# Altium integrated library Cirrus Converter CODEC.IntLib: 4 symbols
Pins are listed as number, name and electrical type; pins without a type are passive.

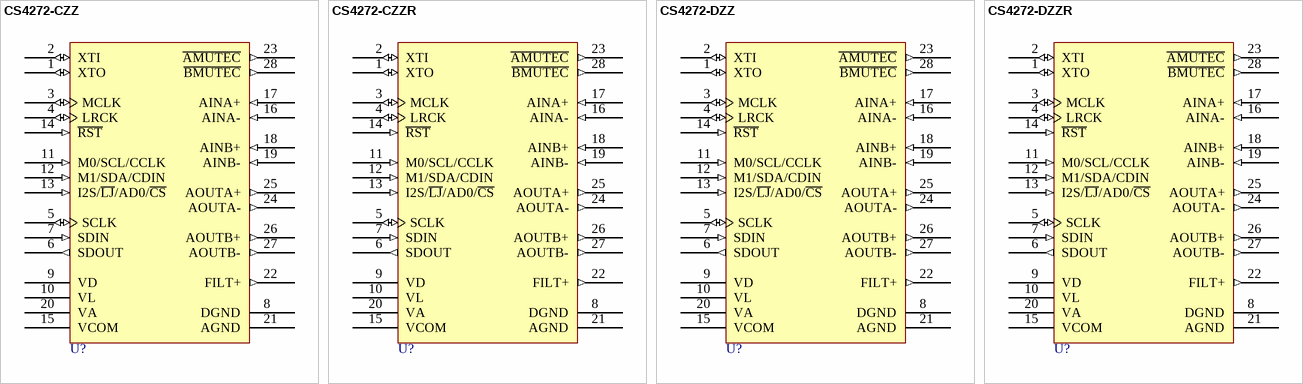
[diagram p0: symbols CS4272-CZZ to CS4272-DZZR]

## CS4272-CZZ
designator U?
24-Bit, 192 kHz Stereo Audio CODEC, 114 dB Dynamic Range, -100 dB THD+N, 28-pin TSSOP, Tube; Published: 30-May-2008; DatasheetVersion: revF1, Aug-2005; PackageVersion: Aug-2005; PackageReference: TSSOP28; Publisher: Altium Limited; PackageDescription: 28-Pin Thin Small Outline Package 0.65 mm Pitch; Code_JEDEC: MO-153; ComponentLink1Description: Manufacturer Link; ComponentLink1URL: http://www.cirrus.com/en/; ComponentLink2Description: Datasheet; ComponentLink2URL: http://www.cirrus.com/en/pubs/proDatasheet/CS4272_F1.pdf
footprint TSSOP28_N (TSOP, 28-Leads, Body 9.7x4.4mm, Pitch 0.65mm, IPC Medium Density)
footprint TSSOP28_L (TSOP, 28-Leads, Body 9.7x4.4mm, Pitch 0.65mm, IPC High Density)
footprint TSSOP28_M (TSOP, 28-Leads, Body 9.7x4.4mm, Pitch 0.65mm, IPC Low Density)
pins: 1 XTO (io), 2 XTI (io), 3 MCLK (io), 4 LRCK (io), 5 SCLK (io), 6 SDOUT (out), 7 SDIN (in), 8 DGND (power), 9 VD (power), 10 VL (power), 11 M0/SCL/CCLK (in), 12 M1/SDA/CDIN (in), 13 I2S/~{LJ}/AD0/~{CS} (in), 14 ~{RST} (in), 15 VCOM (power), 16 AINA- (in), 17 AINA+ (in), 18 AINB+ (in), 19 AINB- (in), 20 VA (power), 21 AGND (power), 22 FILT+ (out), 23 ~{AMUTEC} (out), 24 AOUTA- (out), 25 AOUTA+ (out), 26 AOUTB+ (out), 27 AOUTB- (out), 28 ~{BMUTEC} (out)

## CS4272-CZZR
designator U?
24-Bit, 192 kHz Stereo Audio CODEC, 114 dB Dynamic Range, -100 dB THD+N, 28-pin TSSOP, T&R; Published: 30-May-2008; DatasheetVersion: revF1, Aug-2005; PackageVersion: Aug-2005; PackageReference: TSSOP28; Publisher: Altium Limited; PackageDescription: 28-Pin Thin Small Outline Package 0.65 mm Pitch; Code_JEDEC: MO-153; ComponentLink1Description: Manufacturer Link; ComponentLink1URL: http://www.cirrus.com/en/; ComponentLink2Description: Datasheet; ComponentLink2URL: http://www.cirrus.com/en/pubs/proDatasheet/CS4272_F1.pdf
footprint TSSOP28_N (TSOP, 28-Leads, Body 9.7x4.4mm, Pitch 0.65mm, IPC Medium Density)
footprint TSSOP28_L (TSOP, 28-Leads, Body 9.7x4.4mm, Pitch 0.65mm, IPC High Density)
footprint TSSOP28_M (TSOP, 28-Leads, Body 9.7x4.4mm, Pitch 0.65mm, IPC Low Density)
pins: 1 XTO (io), 2 XTI (io), 3 MCLK (io), 4 LRCK (io), 5 SCLK (io), 6 SDOUT (out), 7 SDIN (in), 8 DGND (power), 9 VD (power), 10 VL (power), 11 M0/SCL/CCLK (in), 12 M1/SDA/CDIN (in), 13 I2S/~{LJ}/AD0/~{CS} (in), 14 ~{RST} (in), 15 VCOM (power), 16 AINA- (in), 17 AINA+ (in), 18 AINB+ (in), 19 AINB- (in), 20 VA (power), 21 AGND (power), 22 FILT+ (out), 23 ~{AMUTEC} (out), 24 AOUTA- (out), 25 AOUTA+ (out), 26 AOUTB+ (out), 27 AOUTB- (out), 28 ~{BMUTEC} (out)

## CS4272-DZZ
designator U?
24-Bit, 192 kHz Stereo Audio CODEC, 114 dB Dynamic Range, -100 dB THD+N, 28-pin TSSOP, Tube; Published: 30-May-2008; DatasheetVersion: revF1, Aug-2005; PackageVersion: Aug-2005; PackageReference: TSSOP28; Publisher: Altium Limited; PackageDescription: 28-Pin Thin Small Outline Package 0.65 mm Pitch; Code_JEDEC: MO-153; ComponentLink1Description: Manufacturer Link; ComponentLink1URL: http://www.cirrus.com/en/; ComponentLink2Description: Datasheet; ComponentLink2URL: http://www.cirrus.com/en/pubs/proDatasheet/CS4272_F1.pdf
footprint TSSOP28_N (TSOP, 28-Leads, Body 9.7x4.4mm, Pitch 0.65mm, IPC Medium Density)
footprint TSSOP28_L (TSOP, 28-Leads, Body 9.7x4.4mm, Pitch 0.65mm, IPC High Density)
footprint TSSOP28_M (TSOP, 28-Leads, Body 9.7x4.4mm, Pitch 0.65mm, IPC Low Density)
pins: 1 XTO (io), 2 XTI (io), 3 MCLK (io), 4 LRCK (io), 5 SCLK (io), 6 SDOUT (out), 7 SDIN (in), 8 DGND (power), 9 VD (power), 10 VL (power), 11 M0/SCL/CCLK (in), 12 M1/SDA/CDIN (in), 13 I2S/~{LJ}/AD0/~{CS} (in), 14 ~{RST} (in), 15 VCOM (power), 16 AINA- (in), 17 AINA+ (in), 18 AINB+ (in), 19 AINB- (in), 20 VA (power), 21 AGND (power), 22 FILT+ (out), 23 ~{AMUTEC} (out), 24 AOUTA- (out), 25 AOUTA+ (out), 26 AOUTB+ (out), 27 AOUTB- (out), 28 ~{BMUTEC} (out)

## CS4272-DZZR
designator U?
24-Bit, 192 kHz Stereo Audio CODEC, 114 dB Dynamic Range, -100 dB THD+N, 28-pin TSSOP, T&R; Published: 30-May-2008; DatasheetVersion: revF1, Aug-2005; PackageVersion: Aug-2005; PackageReference: TSSOP28; Publisher: Altium Limited; PackageDescription: 28-Pin Thin Small Outline Package 0.65 mm Pitch; Code_JEDEC: MO-153; ComponentLink1Description: Manufacturer Link; ComponentLink1URL: http://www.cirrus.com/en/; ComponentLink2Description: Datasheet; ComponentLink2URL: http://www.cirrus.com/en/pubs/proDatasheet/CS4272_F1.pdf
footprint TSSOP28_N (TSOP, 28-Leads, Body 9.7x4.4mm, Pitch 0.65mm, IPC Medium Density)
footprint TSSOP28_L (TSOP, 28-Leads, Body 9.7x4.4mm, Pitch 0.65mm, IPC High Density)
footprint TSSOP28_M (TSOP, 28-Leads, Body 9.7x4.4mm, Pitch 0.65mm, IPC Low Density)
pins: 1 XTO (io), 2 XTI (io), 3 MCLK (io), 4 LRCK (io), 5 SCLK (io), 6 SDOUT (out), 7 SDIN (in), 8 DGND (power), 9 VD (power), 10 VL (power), 11 M0/SCL/CCLK (in), 12 M1/SDA/CDIN (in), 13 I2S/~{LJ}/AD0/~{CS} (in), 14 ~{RST} (in), 15 VCOM (power), 16 AINA- (in), 17 AINA+ (in), 18 AINB+ (in), 19 AINB- (in), 20 VA (power), 21 AGND (power), 22 FILT+ (out), 23 ~{AMUTEC} (out), 24 AOUTA- (out), 25 AOUTA+ (out), 26 AOUTB+ (out), 27 AOUTB- (out), 28 ~{BMUTEC} (out)